# Altium integrated library TagConnect.IntLib: 1 symbol
Pins are listed as number, name and electrical type; pins without a type are passive.

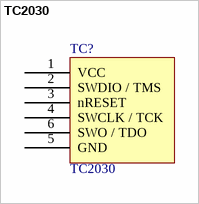
[diagram p0: symbol TC2030]

## TC2030
designator TC?
TC2030-CTX (-NL) 6-pin debug connector
footprint Model Name (Footprint not found)
footprint tag_connect-6_no_legs
footprint tag_connect-6
pins: 1 VCC, 2 SWDIO / TMS, 3 nRESET, 4 SWCLK / TCK, 5 GND, 6 SWO / TDO